# EAGLE library part LGA14 (library Bits_library_eagle 9x)
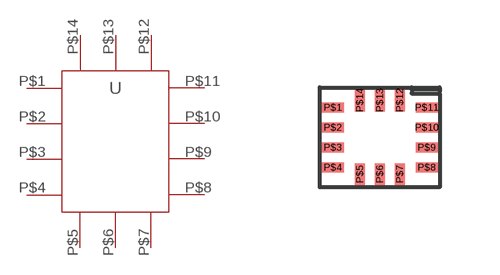
[diagram p69: symbol with the pads of LGA-14; footprint LGA-14]

Designator prefix -

## LGA14  [LGA-14]
P$1  P$1
P$2  P$2
P$3  P$3
P$4  P$4
P$5  P$5
P$6  P$6
P$7  P$7
P$8  P$8
P$9  P$9
P$10  P$10
P$11  P$11
P$12  P$12
P$13  P$13
P$14  P$14

## Footprint LGA-14 (pad centres in mm)
smd 0.55 x 0.25: P$1 -1.175,0.75; P$2 -1.175,0.25; P$3 -1.175,-0.25; P$4 -1.175,-0.75; P$8 1.175,-0.75; P$9 1.175,-0.25; P$10 1.175,0.25; P$11 1.175,0.75
smd 0.25 x 0.55: P$5 -0.5,-0.925; P$6 0,-0.925; P$7 0.5,-0.925; P$12 0.5,0.925; P$13 0,0.925; P$14 -0.5,0.925